# EAGLE library part TCM8230MD (library tcm8230)
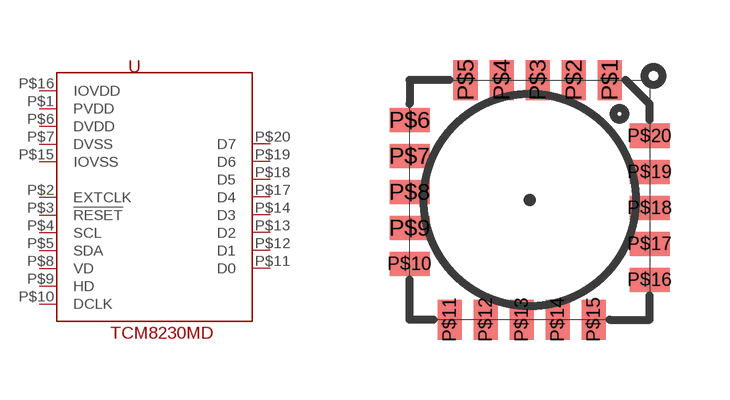
[diagram p0: symbol with the pads of TCM8230MD; footprint TCM8230MD]

Designator prefix U

## TCM8230MD  [TCM8230MD]
P$1  PVDD  pwr
P$2  EXTCLK  in
P$3  !RESET  in
P$4  SCL
P$5  SDA
P$6  DVDD  pwr
P$7  DVSS  pwr
P$8  VD  out
P$9  HD  out
P$10  DCLK  in
P$11  D0  out
P$12  D1  out
P$13  D2  out
P$14  D3  out
P$15  IOVSS  pwr
P$16  IOVDD  pwr
P$17  D4  out
P$18  D5  out
P$19  D6  out
P$20  D7  out

## Footprint TCM8230MD (pad centres in mm)
TCM8230MD 640x480 VGA imager in kinky SMD package. 20090625 / tgipson
smd 0.6 x 1: P$1 2,3; P$2 1.1,3; P$3 0.2,3; P$4 -0.7,3; P$5 -1.6,3; P$11 -2,-3; P$12 -1.1,-3; P$13 -0.2,-3; P$14 0.7,-3; P$15 1.6,-3
smd 1 x 0.6: P$6 -3,2; P$7 -3,1.1; P$8 -3,0.2; P$9 -3,-0.7; P$10 -3,-1.6; P$16 3,-2; P$17 3,-1.1; P$18 3,-0.2; P$19 3,0.7; P$20 3,1.6